# Altium schematic symbol library Scheet.SchLib: 52 symbols
Pins are listed as number, name and electrical type; pins without a type are passive.

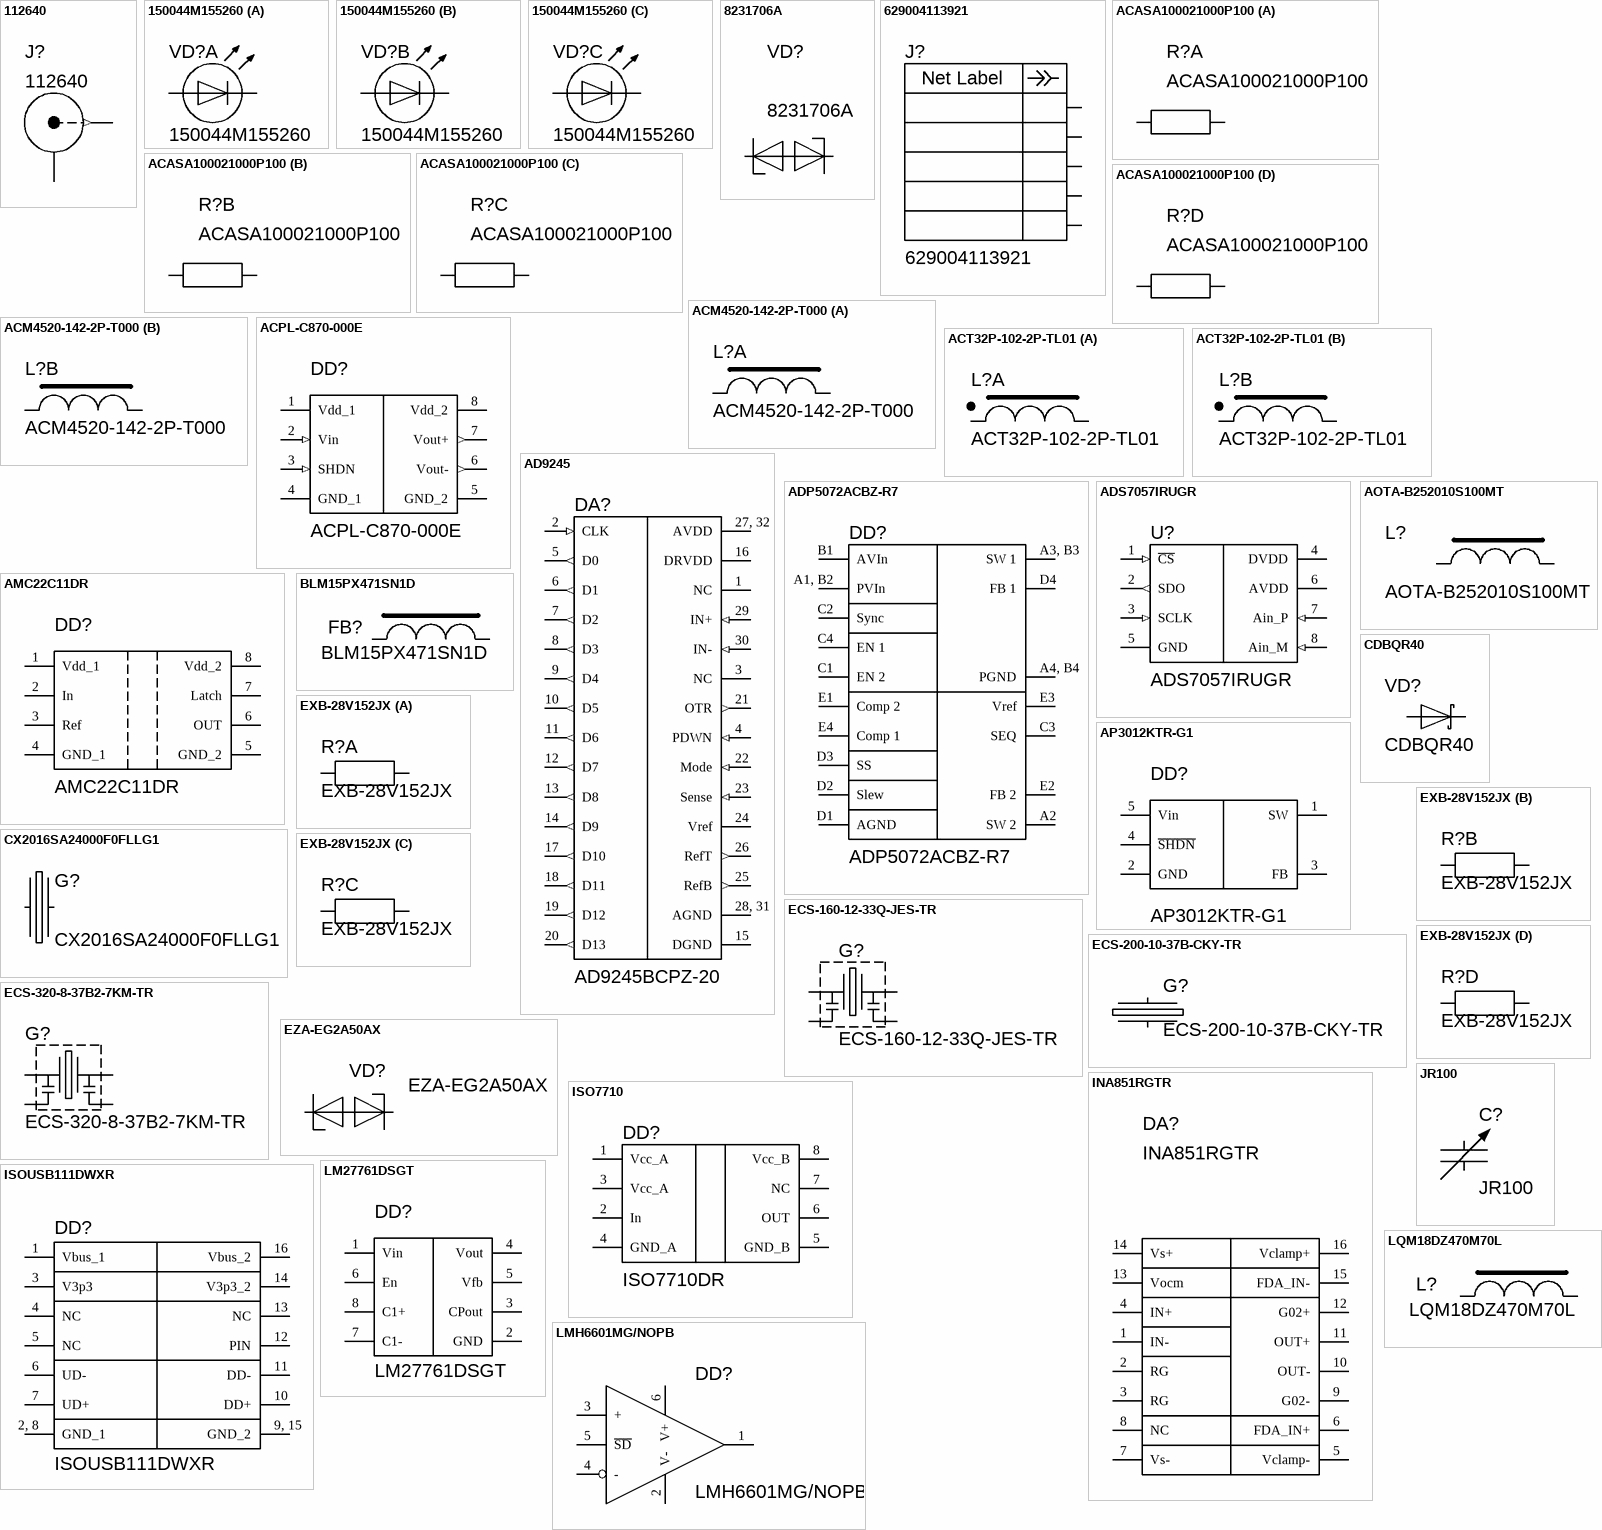
[diagram p0: symbols 112640 to LQM18DZ470M70L]

## 112640
designator J?
RF Connectors / Coaxial Connectors BNC PCB END LAUNCH 50 OHM RND BODY; Manufacturer: Amphenol; Value: 50 Ohms; ComponentLink1Description: Datasheet; ComponentLink1URL: https://eu.mouser.com/datasheet/2/18/1/amph_s_a0003617014_1-2261107.pdf; ComponentLink2Description: Link; ComponentLink2URL: https://eu.mouser.com/ProductDetail/Amphenol-RF/112640?qs=g6wJ%252BjiQWOckvE%2FP9L4wAw%3D%3D; P/N: 112640; Case: BNC; Component Type: Jack (Socket)
footprint 112640
pins: 1 In (out), 2 Shield (power)

## 150044M155260
designator VD?
Standard LEDs - SMD WL-SFCC SMT LED Full-color Chip; Manufacturer: Wurth Elektronik; Value: RGB LEDs; ComponentLink1Description: Datasheet; ComponentLink1URL: https://www.we-online.com/components/products/datasheet/150044M155260.pdf; ComponentLink2Description: Link; ComponentLink2URL: https://eu.mouser.com/ProductDetail/Wurth-Elektronik/150044M155260?qs=u16ybLDytRba39Og9E2ywA%3D%3D; P/N: 150044M155260; Case: 0404; Component Type: Standard LEDs - SMD
footprint 0404(RGB LED)
part A pins: 1 Anode, 2 Cathode
part B pins: 1 Anode, 3 Cathode
part C pins: 1 Anode, 4 Cathode

## 8231706A
designator VD?
ESD Suppressors / TVS Diodes WE-VE femtoF 0402 6V 0.05pF 0.05uA; Manufacturer: Wurth Elektronik; Value: 6 VDC; ComponentLink1Description: Datasheet; ComponentLink1URL: https://www.we-online.com/components/products/datasheet/8231706A.pdf; ComponentLink2Description: Link; ComponentLink2URL: https://eu.mouser.com/ProductDetail/Wurth-Elektronik/8231706A?qs=wnTfsH77Xs6uU3vjj%252BDu6g%3D%3D; P/N: 8231706A; Case: 0402; Component Type: ESD Suppressors / TVS Diodes
footprint R0402
pins: 1, 2

## 629004113921
designator J?
USB Connectors WR-COM Type A SMT 4Pin W/Clip Male; Manufacturer: Wurth Elektronik; Value: USB A; ComponentLink1Description: Datasheet; ComponentLink1URL: https://www.we-online.com/components/products/datasheet/629004113921.pdf; ComponentLink2Description: Link; ComponentLink2URL: https://eu.mouser.com/ProductDetail/Wurth-Elektronik/629004113921?qs=35zkduByVmhHRkVkRjAlEQ%3D%3D; P/N: 629004113921; Case: USB A; Component Type: USB Type A Connectors
footprint 629004113921
pins: 0, 1, 2, 3, 4
text: Net Label

## ACASA100021000P100
designator R?
Resistor Networks & Arrays 100/100ohms .5% 50ppm 0612 Convex; Manufacturer: Vishay; Value: 100R; ComponentLink1Description: Datasheet; ComponentLink1URL: https://www.vishay.com/docs/28754/acasprof.pdf; ComponentLink2Description: Link; ComponentLink2URL: https://eu.mouser.com/ProductDetail/Vishay-Beyschlag/ACASA100021000P100?qs=nuXzIS8loXGt0LS72QQVIg%3D%3D; P/N: ACASA100021000P100; Case: 0612 (1632 metric); Component Type: Resistor Networks & Arrays
footprint ACAS 0612
part A pins: 1, 2
part B pins: 3, 4
part C pins: 5, 6
part D pins: 7, 8

## ACM4520-142-2P-T000
designator L?
Common Mode Chokes / Filters 50VDC 80mOhm 1.5A 180mm; Manufacturer: TDK; Value: 2.5 uH, 1400 Ohms, 1.5 A; ComponentLink1Description: Datasheet; ComponentLink1URL: https://product.tdk.com/system/files/dam/doc/product/emc/emc/cmf_cmc/catalog/cmf_commercial_power_acm4520_en.pdf; ComponentLink2Description: Link; ComponentLink2URL: https://eu.mouser.com/ProductDetail/TDK/ACM4520-142-2P-T000?qs=LqEMasVbnSh%2FQElecwEc%252Bg%3D%3D; P/N: ACM4520-142-2P-T000; Case: 1808; Component Type: Common Mode Chokes / Filters
footprint 1808 (4520 metric)
part A pins: 1, 4
part B pins: 2, 3

## ACPL-C870-000E
designator DD?
Optically Isolated Amplifiers Precision Iso-Amp; Manufacturer: Broadcom Limited; Value: 100 kHz; ComponentLink1Description: Datasheet; ComponentLink1URL: https://eu.mouser.com/datasheet/2/678/avgo_s_a0002428009_1-2290947.pdf; ComponentLink2Description: Link; ComponentLink2URL: https://eu.mouser.com/ProductDetail/Broadcom-Avago/ACPL-C870-000E?qs=mhB89zxvawkjQTU%252BZdJZGA%3D%3D; P/N: ACPL-C870-000E; Case: SSO-8; Component Type: Optically Isolated Amplifiers
footprint SS0-8
pins: 1 Vdd_1 (power), 2 Vin (in), 3 SHDN (in), 4 GND_1 (power), 5 GND_2 (power), 6 Vout- (out), 7 Vout+ (out), 8 Vdd_2 (power)

## ACT32P-102-2P-TL01
designator L?
Common Mode Chokes / Filters 80VDC 0.15Ohm 0.80A AEC-Q200; Manufacturer: TDK; Value: 150 mOhms, 800 mA; ComponentLink1Description: Datasheet; ComponentLink1URL: https://product.tdk.com/system/files/dam/doc/product/emc/emc/cmf_cmc/catalog/cmf_automotive_power_act32p_en.pdf; ComponentLink2Description: Link; ComponentLink2URL: https://eu.mouser.com/ProductDetail/TDK/ACT32P-102-2P-TL01?qs=DRkmTr78QASmPpbb1ZzWJg%3D%3D; P/N: ACT32P-102-2P-TL01; Case: 1210; Component Type: Common Mode Chokes / Filters
footprint 1210 inductance
part A pins: 1, 4
part B pins: 2, 3

## AD9245
designator DA?, comment AD9245BCPZ-20
Analog to Digital Converters - ADC 14-Bit, 20 MSPS/40 MSPS/65 MSPS/80 MSPS 3 V A/D Converter; Manufacturer: Analog Devices Inc.; Value: 14 bit,  20 MS/s; ComponentLink1Description: Datasheet; ComponentLink1URL: https://eu.mouser.com/datasheet/2/609/AD9245-3134626.pdf; ComponentLink2Description: Link; ComponentLink2URL: https://eu.mouser.com/ProductDetail/Analog-Devices/AD9245BCPZ-20?qs=%2FtpEQrCGXCyn%2FB%2F5xLQAJw%3D%3D; P/N: AD9245BCPZ-20; Case: LFCSP-32; Component Type: Analog to Digital Converters - ADC
footprint LFCSP-32_AD9245
pins: 1 NC, 2 CLK (in), 3 NC, 4 PDWN (in), 5 D0 (out), 6 D1 (out), 7 D2 (out), 8 D3 (out), 9 D4 (out), 10 D5 (out), 11 D6 (out), 12 D7 (out), 13 D8 (out), 14 D9 (out), 15 DGND (power), 16 DRVDD (power), 17 D10 (out), 18 D11 (out), 19 D12 (out), 20 D13 (out), 21 OTR (out), 22 Mode (in), 23 Sense (in), 24 Vref (power), 25 RefB (out), 26 RefT (out), 27, 32 AVDD (power), 28, 31 AGND (power), 29 IN+ (in), 30 IN- (in)

## ADP5072ACBZ-R7
designator DD?
Switching Voltage Regulators 1 A/0.6 A DC-to-DC Switching Regulator with Independent Positive and Negative Outputs; Manufacturer: Analog Devices Inc.; Value: - 30 V to 35 V; ComponentLink1Description: Datasheet; ComponentLink1URL: https://eu.mouser.com/datasheet/2/609/adp5072-3121366.pdf; ComponentLink2Description: Link; ComponentLink2URL: https://eu.mouser.com/ProductDetail/Analog-Devices/ADP5072ACBZ-R7?qs=w%2Fv1CP2dgqoekXcyqSGVnQ%3D%3D; P/N: ADP5072ACBZ-R7; Case: WLCSP-20; Component Type: Switching Voltage Regulators
footprint WLCSP-20
pins: A1, B2 PVIn, A2 SW 2, A3, B3 SW 1, A4, B4 PGND, B1 AVIn, C1 EN 2, C2 Sync, C3 SEQ, C4 EN 1, D1 AGND, D2 Slew, D3 SS, D4 FB 1, E1 Comp 2, E2 FB 2, E3 Vref, E4 Comp 1

## ADS7057IRUGR
designator U?
Analog to Digital Converters - ADC 14-Bit, 2.5MSPS, Differential Input, Small-Size Low-Power SAR ADC 8-X2QFN -40 to 125; Manufacturer: Texas Instruments; ComponentLink1Description: Datasheet; ComponentLink1URL: https://www.ti.com/lit/ds/symlink/ads7057.pdf?ts=1705399240186&ref_url=https%253A%252F%252Fwww.ti.com%252Fproduct%252FADS7057%253Futm_source%253Dgoogle%2526utm_medium%253Dcpc%2526utm_campaign%253Dasc-null-null-gpn_en-cpc-pf-google-tw%2526utm_content%253Dads7057%2526ds_k%253D%2526dcm%253Dyes%2526gclid%253DCKDkyder4YMDFU2TxQIdCZ0DrA; ComponentLink2Description: Link; ComponentLink2URL: https://eu.mouser.com/ProductDetail/Texas-Instruments/ADS7057IRUGR?qs=W0yvOO0ixfHFG1eYl2OdxQ%3D%3D; Value: 14-Bit, 2.5MSPS; P/N: ADS7057IRUGR; Case: X2QFN-8; Component Type: Analog to Digital Converters - ADC
footprint PCBComponent_1 - duplicate
pins: 1 ~{CS} (in), 2 SDO (out), 3 SCLK (in), 4 DVDD (power), 5 GND (power), 6 AVDD (power), 7 Ain_P (in), 8 Ain_M (in)

## AMC22C11DR
designator DD?
Analog Comparators Fast-response basic isolated comparator with adjustable threshold and latch function 8-SOIC -40 to 125; Manufacturer: Texas Instruments; Value: 5.5 V; ComponentLink1Description: Datasheet; ComponentLink1URL: https://www.ti.com/lit/ds/symlink/amc22c11.pdf?ts=1709155590134&ref_url=https%253A%252F%252Feu.mouser.com%252F; ComponentLink2Description: Link; ComponentLink2URL: https://eu.mouser.com/ProductDetail/Texas-Instruments/AMC22C11DR?qs=T%252BzbugeAwjjHVh2SpNDp3A%3D%3D; P/N: AMC22C11DR; Case: SOIC-8; Component Type: Isolated Comparator
footprint SOIC-8
pins: 1 Vdd_1, 2 In, 3 Ref, 4 GND_1, 5 GND_2, 6 OUT, 7 Latch, 8 Vdd_2

## AOTA-B252010S100MT
designator L?
Power Inductors - SMD IND 10uH 1.2A 420mOhms; Manufacturer: ABRACON; ComponentLink1Description: Datasheet; ComponentLink1URL: https://eu.mouser.com/datasheet/2/3/AOTA_B252010S-3224149.pdf; ComponentLink2Description: Link; ComponentLink2URL: https://eu.mouser.com/ProductDetail/ABRACON/AOTA-B252010S100MT?qs=1Kr7Jg1SGW80mVrWNV0NfQ%3D%3D; P/N: AOTA-B252010S100MT; Value: 10 uH; Case: 0907 (2520 metric); Component Type: Power Inductors - SMD
footprint 0907 (2520)
pins: 1, 2

## AP3012KTR-G1
designator DD?
Switching Voltage Regulators 1.5MHz DC/DC 2.6V to 16V; Manufacturer: Diodes Incorporated; ComponentLink1Description: Datasheet; ComponentLink1URL: https://www.diodes.com/assets/Datasheets/AP3012.pdf; ComponentLink2Description: Link; ComponentLink2URL: https://eu.mouser.com/ProductDetail/Diodes-Incorporated/AP3012KTR-G1?qs=x6A8l6qLYDDQ%252B3KTjfzHFg%3D%3D; P/N: AP3012KTR-G1; Value: 16 V; Case: SOT-23-5; Component Type: Switching Voltage Regulators
footprint SOT-23-5
pins: 1 SW, 2 GND, 3 FB, 4 ~{SHDN}, 5 Vin

## BLM15PX471SN1D
designator FB?
Ferrite Beads 470 OHM 25% Alternate Sizing Guide Below; Manufacturer: Murata; Value: 470 Ohms, 1A; ComponentLink1Description: Datasheet; ComponentLink1URL: https://eu.mouser.com/datasheet/2/281/ENFA0018-1915754.pdf; ComponentLink2Description: Link; ComponentLink2URL: https://eu.mouser.com/ProductDetail/Murata-Electronics/BLM15PX471SN1D?qs=eTNEoJdcnEJgxrnv%252BsVZMw%3D%3D; P/N: BLM15PX471SN1D; Case: 0402; Component Type: Ferrite Beads
footprint R0402
pins: 1, 2

## CDBQR40
designator VD?
Schottky Diodes & Rectifiers 200mA 40V DFN Sm. Sgnl. Schottky; Manufacturer: Comchip Technology; Value: 200mA, 40V; ComponentLink1Description: Datasheet; ComponentLink1URL: https://eu.mouser.com/datasheet/2/80/CDBQR40_HF_RevC811666-2488328.pdf; ComponentLink2Description: Link; ComponentLink2URL: https://eu.mouser.com/ProductDetail/Comchip-Technology/CDBQR40?qs=tw%252BuQ%2FB6PO2qnzfzuJamKw%3D%3D; P/N: CDBQR40; Case: 0402; Component Type: Schottky Diodes & Rectifiers
footprint 0402_VD
pins: 1 Out, 2 IN

## CX2016SA24000F0FLLG1
designator G?
Crystals 2.0mm x 1.6mm Crystal 24MHz 10pF +/-20ppm; Manufacturer: KYOCERA AVX; ComponentLink1Description: Datasheet; ComponentLink1URL: https://eu.mouser.com/datasheet/2/40/cx2016sa_e-2936404.pdf; ComponentLink2Description: Link; ComponentLink2URL: https://eu.mouser.com/ProductDetail/KYOCERA-AVX/CX2016SA24000F0FLLG1?qs=Imq1NPwxi762eftAlKVhMQ%3D%3D; P/N: CX2016SA24000F0FLLG1; Value: 24 MHz; Case: 0806 (2016 metric); Component Type: Crystals
footprint 0806 (2016 metric)
pins: 1, 3

## ECS-160-12-33Q-JES-TR
designator G?
Crystals 16MHz 12pF 20ppm -40C +125C AEC-Q200; Manufacturer: ECS; Case: 3.2 mm x 2.5 mm; Component Type: Crystals; Value: 16 MHz; ComponentLink1Description: Datasheet; ComponentLink1URL: https://www.mouser.de/datasheet/2/122/ECX_33Q-938166.pdf; ComponentLink2Description: Link; ComponentLink2URL: https://www.mouser.de/ProductDetail/ECS/ECS-160-12-33Q-JES-TR?qs=%2FnKYMpMO73PYvRaxa9KuKg%3D%3D; P/N: ECS-160-12-33Q-JES-TR
footprint Crystal_3.2_2.5_mm (for ECS-160-12-33Q-JES-TR)
pins: 1, 2, 3, 4

## ECS-200-10-37B-CKY-TR
designator G?
Crystals 20MHz ESR 70 10pF-30C +85C; Manufacturer: ECS; Value: 20 MHz,  10 PPM; ComponentLink1Description: Datasheet; ComponentLink1URL: https://eu.mouser.com/datasheet/2/122/ECX_1637B-1633271.pdf; ComponentLink2Description: Link; ComponentLink2URL: https://eu.mouser.com/ProductDetail/ECS/ECS-200-10-37B-CKY-TR?qs=l7cgNqFNU1iRTZcEfH9KUQ%3D%3D; P/N: ECS-200-10-37B-CKY-TR; Case: 2 mm x 1.6 mm; Component Type: Crystals
footprint 2 mm x 1.6 mm (ECS-200-10-37B-CKY-TR)
pins: 1, 3

## ECS-320-8-37B2-7KM-TR
designator G?
Crystals 32.000 MHz 8 pF +/-7 +/-10 -20 +70 C +/-2 ppm Max. ESR = 50; Manufacturer: ECS; Value: 32 MHz,  10 PPM; ComponentLink1Description: Datasheet; ComponentLink1URL: https://eu.mouser.com/datasheet/2/122/ECX_1637B2-2400564.pdf; ComponentLink2Description: Link; ComponentLink2URL: https://eu.mouser.com/ProductDetail/ECS/ECS-320-8-37B2-7KM-TR?qs=QNEnbhJQKvYRM5nE5d%2F8vg%3D%3D; P/N: ECS-320-8-37B2-7KM-TR; Case: 2 mm x 1.6 mm; Component Type: Crystals
footprint 2 mm x 1.6 mm (ECS-200-10-37B-CKY-TR)
pins: 1, 2, 3, 4

## EXB-28V152JX
designator R?
Resistor Networks & Arrays Resistor ArrayChip 0804 4 elements; Manufacturer: Panasonic; Value: 1.5 kOhms; ComponentLink1Description: Datasheet; ComponentLink1URL: https://eu.mouser.com/datasheet/2/315/AOC0000C14-1108062.pdf; ComponentLink2Description: Link; ComponentLink2URL: https://eu.mouser.com/ProductDetail/Panasonic/EXB-28V152JX?qs=WwqriLBepZsRGQkpxUQQDA%3D%3D; P/N: EXB-28V152JX; Case: 0402 (1005 metric); Component Type: Resistor Networks & Arrays
footprint 0402 (1005 metric) (EXB-28V152JX)
part A pins: 1, 8
part B pins: 2, 7
part C pins: 3, 6
part D pins: 4, 5

## EZA-EG2A50AX
designator VD?
TVS Diodes / ESD Suppressors Dataline Protection PP; Manufacturer: Panasonic; Value: 1 channel, Bidirectional, 100V; ComponentLink1Description: Datasheet; ComponentLink1URL: https://eu.mouser.com/datasheet/2/315/AWD0000C13-1131263.pdf; ComponentLink2Description: Link; ComponentLink2URL: https://eu.mouser.com/ProductDetail/Panasonic/EZA-EG2A50AX?qs=sGAEpiMZZMsItbzKdwyIez%252BvwGoF%252BBrnhQ8KlbijrwA%3D; P/N: EZA-EG2A50AX; Case: 0402; Component Type: TVS Diodes / ESD Suppressors
footprint R0402
pins: 1, 2

## INA851RGTR
designator DA?
Instrumentation Amplifiers Low-noise (3.2 nV/vHz) high-speed (22 MHz) fully-differential instrumentation amp with OVP (+/-40 V) 16-VQFN -40 to 125; Manufacturer: Texas Instruments; Value: 3.2 nV/vHz. +-40V; ComponentLink1Description: Datasheet; ComponentLink1URL: https://www.ti.com/lit/ds/symlink/ina851.pdf?ts=1707581186124&ref_url=https%253A%252F%252Feu.mouser.com%252F; ComponentLink2Description: Link; ComponentLink2URL: https://eu.mouser.com/ProductDetail/Texas-Instruments/INA851RGTR?qs=Y0Uzf4wQF3kbGQkgMC0HWQ%3D%3D; P/N: INA851RGTR; Case: VQFN-16; Component Type: Instrumentation Amplifiers
footprint VQFN_16_INA851
pins: 1 IN-, 2 RG, 3 RG, 4 IN+, 5 Vclamp-, 6 FDA_IN+, 7 Vs-, 8 NC, 9 G02-, 10 OUT-, 11 OUT+, 12 G02+, 13 Vocm, 14 Vs+, 15 FDA_IN-, 16 Vclamp+

## ISO7710
designator DD?, comment ISO7710DR
Digital Isolators Robust EMC, single-channel, reinforced digital isolator 8-SOIC -55 to 125; Manufacturer: Texas Instruments; Value: 1 Channel, 100 Mb/s; ComponentLink1Description: Datasheet; ComponentLink1URL: https://www.ti.com/lit/ds/symlink/iso7710.pdf?ts=1707945183418&ref_url=https%253A%252F%252Feu.mouser.com%252F; ComponentLink2Description: Link; ComponentLink2URL: https://eu.mouser.com/ProductDetail/Texas-Instruments/ISO7710DR?qs=0C8XhJW8e4oR5nrR%2Fs7iLg%3D%3D; P/N: ISO7710DR; Case: SOIC-8; Component Type: Digital Isolators
footprint SOIC-8
pins: 1 Vcc_A, 2 In, 3 Vcc_A, 4 GND_A, 5 GND_B, 6 OUT, 7 NC, 8 Vcc_B

## ISOUSB111DWXR
designator DD?
USB Interface IC Low-emission isolated USB repeater supporting low and full speed 16-SSOP -40 to 125; Manufacturer: Texas Instruments; Value: USB 2.0; ComponentLink1Description: Datasheet; ComponentLink1URL: https://www.ti.com/lit/ds/symlink/isousb111.pdf?ts=1708034758891&ref_url=https%253A%252F%252Fwww.ti.com%252Fproduct%252FISOUSB111; ComponentLink2Description: Link; ComponentLink2URL: https://eu.mouser.com/ProductDetail/Texas-Instruments/ISOUSB111DWXR?qs=Y0Uzf4wQF3msEozH7EwD3g%3D%3D; P/N: ISOUSB111DWXR; Case: SSOP-16; Component Type: USB Interface IC
footprint SSOP-16
pins: 1 Vbus_1, 2, 8 GND_1, 3 V3p3, 4 NC, 5 NC, 6 UD-, 7 UD+, 9, 15 GND_2, 10 DD+, 11 DD-, 12 PIN, 13 NC, 14 V3p3_2, 16 Vbus_2

## JR100
designator C?
Trimmer/Variable Capacitors 2.0 - 10pF 100volts; Manufacturer: Knowles; Value: 2 pF to 10 pF; ComponentLink1Description: Datasheet; ComponentLink1URL: https://eu.mouser.com/datasheet/2/218/Knowles_Trimmers_Catalogue_web-1774092.pdf; ComponentLink2Description: Link; ComponentLink2URL: https://eu.mouser.com/ProductDetail/Knowles-Voltronics/JR100?qs=Xqu1B%2Fs4Uoag80ukOW5org%3D%3D; P/N: JR100; Case: JR; Component Type: Trimmer/Variable Capacitors
footprint Trimmer Capacitors
pins: 1, 2

## LM27761DSGT
designator DD?
Switching Voltage Regulators Low-Noise Regulated Switched Capacitor; Manufacturer: Texas Instruments; Value: - 5 V to - 1.5 V; ComponentLink1Description: Datasheet; ComponentLink1URL: https://www.ti.com/lit/ds/symlink/lm27761.pdf?ts=1709149591323&ref_url=https%253A%252F%252Feu.mouser.com%252F; ComponentLink2Description: Link; ComponentLink2URL: https://eu.mouser.com/ProductDetail/Texas-Instruments/LM27761DSGT?qs=jK8VN%252BJp1h5Sdnd3ViQCNQ%3D%3D; P/N: LM27761DSGT; Case: WSON-8; Component Type: Switching Voltage Regulators
footprint WSON-8
pins: 1 Vin, 2 GND, 3 CPout, 4 Vout, 5 Vfb, 6 En, 7 C1-, 8 C1+

## LMH6601MG/NOPB
designator DD?
Operational Amplifiers - Op Amps 250 MHz, 2.4V CMOS Operational Amplifier with Shutdown 6-SC70 -40 to 85; Manufacturer: Texas Instruments; Value: 150 MHz; ComponentLink1Description: Datasheet; ComponentLink1URL: https://www.ti.com/lit/ds/symlink/lmh6601-q1.pdf?ts=1709466846121&ref_url=https%253A%252F%252Feu.mouser.com%252F; ComponentLink2Description: Link; ComponentLink2URL: https://eu.mouser.com/ProductDetail/Texas-Instruments/LMH6601MG-NOPB?qs=7lkVKPoqpbau71mc2ih0sg%3D%3D; P/N: LMH6601MG/NOPB; Case: SC-70-6; Component Type: Operational Amplifiers - Op Amps
footprint SC-70-6 (DCK(R-PDSO-G6))
pins: 1 Out, 2 V-, 3 +, 4 -, 5 ~{SD}, 6 V+

## LQM18DZ470M70L
designator L?
Power Inductors - SMD 0603 47uH 20% 180mA 3.32ohm AEC-Q200; Manufacturer: Murata; ComponentLink1Description: Datasheet; ComponentLink1URL: https://eu.mouser.com/datasheet/2/281/1/JELF243B_9128-3158890.pdf; ComponentLink2Description: Link; ComponentLink2URL: https://eu.mouser.com/ProductDetail/Murata-Electronics/LQM18DZ470M70L?qs=aP1CjGhiNiGa4GC35xm0xg%3D%3D; P/N: LQM18DZ470M70L; Value: 180 mA; Case: 0603; Component Type: Power Inductors - SMD
footprint L0603
pins: 1, 2

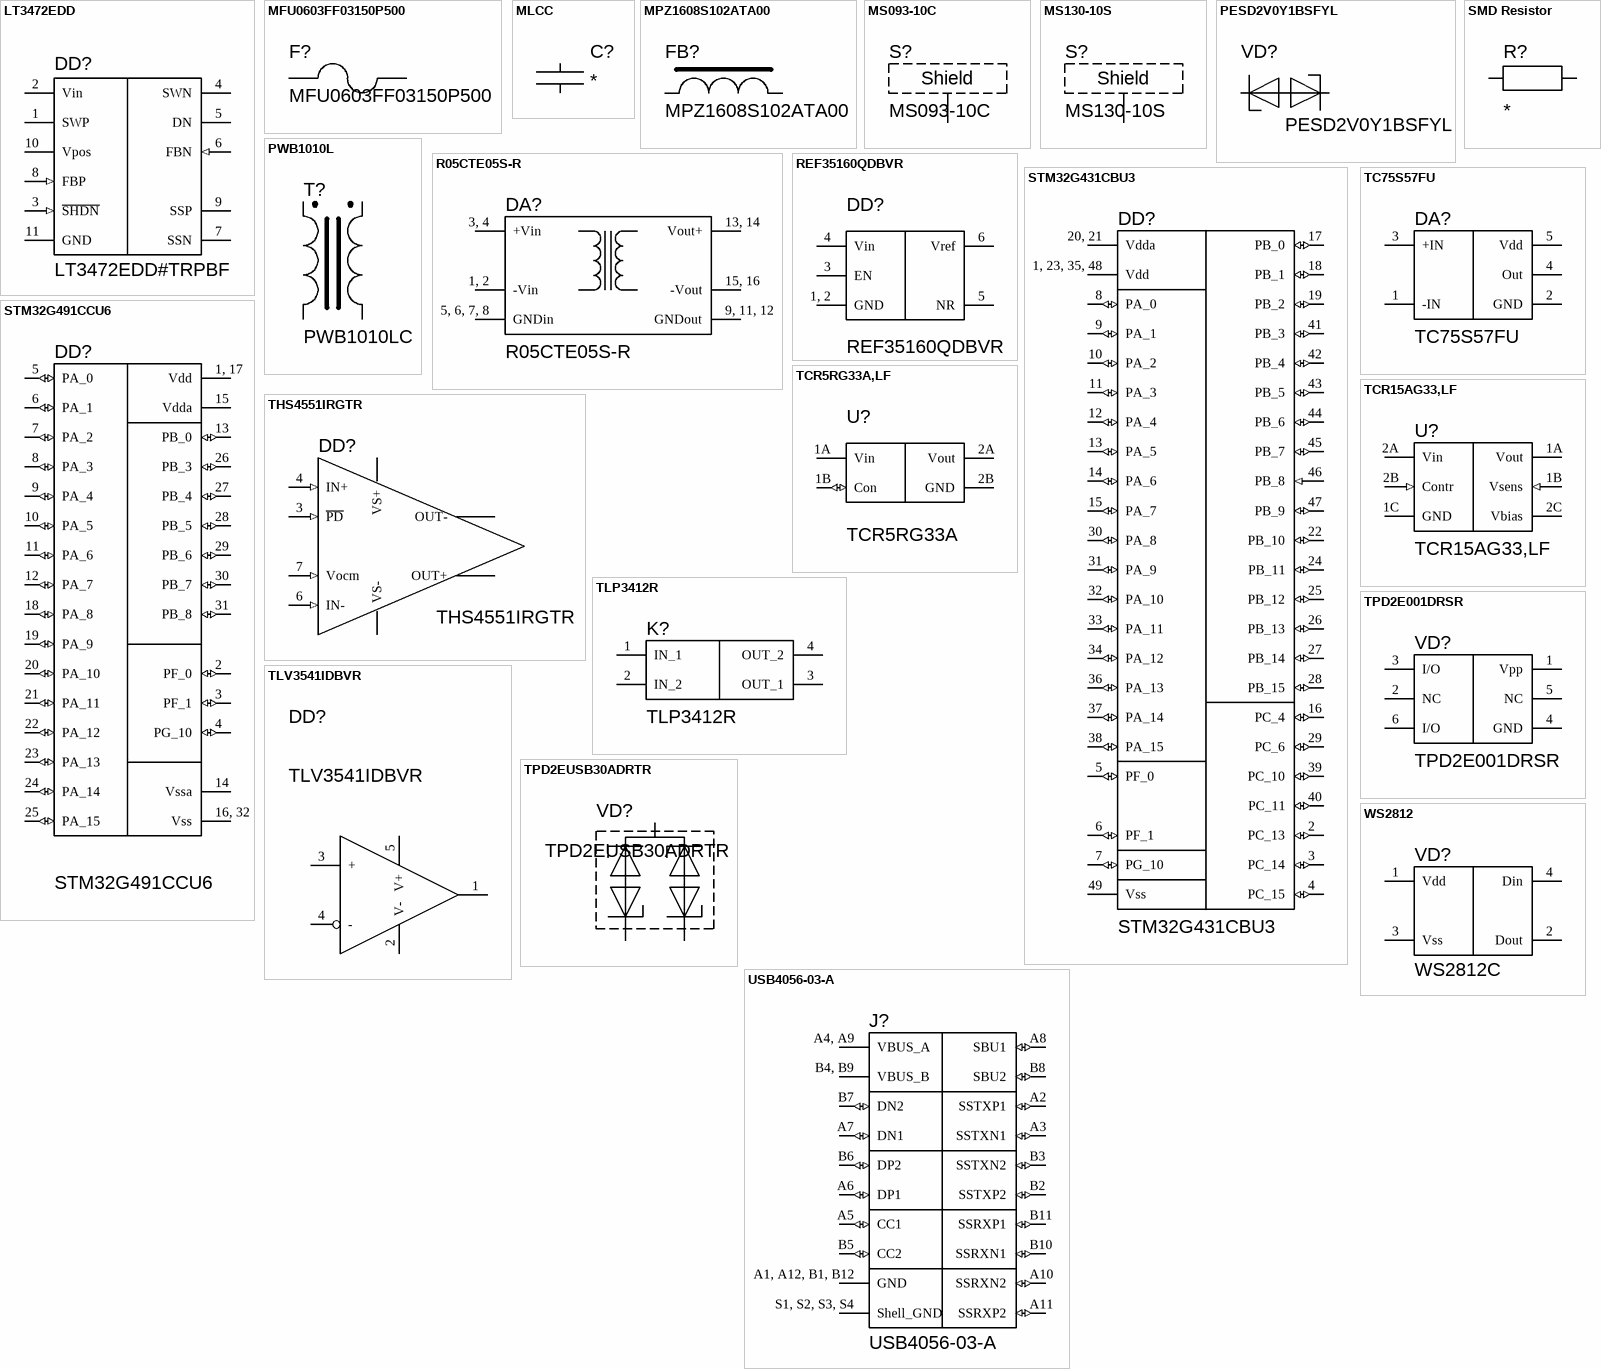
[diagram p1: symbols LT3472EDD to WS2812]

## LT3472EDD
designator DD?, comment LT3472EDD#TRPBF
Switching Voltage Regulators Boost & Inv DC/DC Conv for CCD Bias; Manufacturer: Analog Devices Inc.; Value: 34V, 0.2A; ComponentLink1Description: Datasheet; ComponentLink1URL: https://eu.mouser.com/datasheet/2/609/3472f-3123771.pdf; ComponentLink2Description: Link; ComponentLink2URL: https://eu.mouser.com/ProductDetail/Analog-Devices/LT3472EDDTRPBF?qs=hVkxg5c3xu%252ByMC99fvAIqQ%3D%3D; P/N: LT3472EDD#TRPBF; Case: DFN-10; Component Type: Switching Voltage Regulators
footprint DFN-10
pins: 1 SWP (power), 2 Vin (power), 3 ~{SHDN} (in), 4 SWN (power), 5 DN (power), 6 FBN (in), 7 SSN (power), 8 FBP (in), 9 SSP (power), 10 Vpos (power), 11 GND (power)

## MFU0603FF03150P500
designator F?
Surface Mount Fuses 32V 3.15A Fast Act; Manufacturer: Vishay; Value: 3.15 A; P/N: MFU0603FF03150P500; Case: 0603; Component Type: Surface Mount Fuses; ComponentLink1Description: Datasheet; ComponentLink1URL: https://www.vishay.com/docs/28747/mfuserie.pdf; ComponentLink2Description: Link; ComponentLink2URL: https://eu.mouser.com/ProductDetail/Vishay-Beyschlag/MFU0603FF03150P500?qs=sGAEpiMZZMsIz3CjQ1xegdfpEu45NLwazbH8oP2SIn8%3D
footprint F0603
pins: 1 IN, 2 IN

## MLCC
designator C?
Cercap smd; P/N: *; Component Type: *; Manufacturer: *; Case: *; ComponentLink1Description: Link; ComponentLink1URL: *; ComponentLink2Description: Datasheet; ComponentLink2URL: *; Value: *
footprint C0603 (*)
footprint C0402 (Chip Capacitor, Body 1.0x0.5mm, IPC High Density)
pins: 1, 2

## MPZ1608S102ATA00
designator FB?
Ferrite Beads 1000ohm 0.8A 300mOhm 0603 Ferrite Chip; Manufacturer: TDK; Value: 1k; ComponentLink1Description: Datasheet; ComponentLink1URL: https://product.tdk.com/system/files/dam/doc/product/emc/emc/beads/catalog/beads_commercial_power_mpz1608_en.pdf; ComponentLink2Description: Link; ComponentLink2URL: https://eu.mouser.com/ProductDetail/TDK/MPZ1608S102ATA00?qs=8Kz9Wu9QwqXjw56MUD5REw%3D%3D; P/N: MPZ1608S102ATA00; Case: 0603; Component Type: Ferrite Beads
footprint L0603
pins: 1, 2

## MS093-10C
designator S?
EMI Gaskets, Sheets, Absorbers & Shielding 9.7 x 9.7 x 3mm Two-piece Drawn-Seamless RF Shield/EMI Shield COVER (CRS); Manufacturer: Masach Tech; ComponentLink1Description: Datasheet; ComponentLink1URL: https://api.masach.com/media/catalog/product/file/MS093-10.pdf; ComponentLink2Description: Link; ComponentLink2URL: https://eu.mouser.com/ProductDetail/Masach/MS093-10C?qs=CT2LuZh%2F7EP1flleX1ZknA%3D%3D; Value: *; P/N: MS093-10C; Case: 9.7 x 9.7 x 3; Component Type: Shields
footprint MS093-10C
pins: 1
text: Shield

## MS130-10S
designator S?
EMI Gaskets, Sheets, Absorbers & Shielding 13 x 13 x 5mm One-piece Drawn-Seamless RF Shield/EMI Shield (CRS); Manufacturer: Masach Tech; ComponentLink1Description: Datasheet; ComponentLink1URL: https://api.masach.com/media/catalog/product/file/MS128-10.pdf; ComponentLink2Description: Link; ComponentLink2URL: https://eu.mouser.com/ProductDetail/Masach/MS130-10S?qs=pUKx8fyJudDNyG0ZPUxt%2FA%3D%3D; Value: 13 x 13 x 5mm; P/N: MS130-10S; Case: 13 x 13 x 5mm; Component Type: Shields
footprint 13_13_5mm
pins: 1
text: Shield

## PESD2V0Y1BSFYL
designator VD?
ESD Suppressors / TVS Diodes PESD2V0Y1BSF/SOD962/SOD962; Manufacturer: Nexperia; Value: 2 V; ComponentLink1Description: Datasheet; ComponentLink1URL: https://eu.mouser.com/datasheet/2/916/PESD2V0Y1BSF-1319538.pdf; ComponentLink2Description: Link; ComponentLink2URL: https://eu.mouser.com/ProductDetail/Nexperia/PESD2V0Y1BSFYL?qs=F5EMLAvA7IB7r2%252BuwsNJ2A%3D%3D; P/N: PESD2V0Y1BSFYL; Case: DSN-0603-2; Component Type: ESD Suppressors / TVS Diodes
footprint DSN-0603-2
pins: 1, 2

## PWB1010L
designator T?, comment PWB1010LC
Audio Transformers / Signal Transformers PWB Wideband RF 1:1 0.0035-125 MHz; Manufacturer: Coilcraft; Value: 3.5 kHz to 125 MHz; ComponentLink1Description: Datasheet; ComponentLink1URL: https://eu.mouser.com/datasheet/2/597/pwb-463529.pdf; ComponentLink2Description: Link; ComponentLink2URL: https://eu.mouser.com/ProductDetail/Coilcraft/PWB1010LC?qs=ZYnrCdKdyeesEVMGru6ImA%3D%3D; P/N: PWB1010LC
footprint PWB1010
pins: 1, 3, 4, 6

## R05CTE05S-R
designator DA?
Isolated DC/DC Converters - SMD 1W 4.5-5.5Vin 5.0Vout 200mA Reel; Manufacturer: RECOM; Value: 1 W, 5V; ComponentLink1Description: Datasheet; ComponentLink1URL: https://eu.mouser.com/datasheet/2/468/RxxCTExxS-3179767.pdf; ComponentLink2Description: Link; ComponentLink2URL: https://eu.mouser.com/ProductDetail/RECOM-Power/R05CTE05S-R?qs=7D1LtPJG0i0SUCKLd%252BnSSQ%3D%3D; P/N: R05CTE05S-R; Case: SOIC-16; Component Type: Isolated DC/DC Converters - SMD
footprint SOIC-16
pins: 1, 2 -Vin, 3, 4 +Vin, 5, 6, 7, 8 GNDin, 9, 11, 12 GNDout, 13, 14 Vout+, 15, 16 -Vout

## REF35160QDBVR
designator DD?
Voltage References 650-nA quiescent current, 12-ppm/C drift, ultra-low-power precision voltage reference; Manufacturer: Texas Instruments; Value: 1.6 V 0.05 %  12 PPM / C; ComponentLink1Description: Datasheet; ComponentLink1URL: https://www.ti.com/lit/ds/symlink/ref35.pdf?ts=1709124227613&ref_url=https%253A%252F%252Fwww.mouser.de%252F; ComponentLink2Description: Link; ComponentLink2URL: https://eu.mouser.com/ProductDetail/Texas-Instruments/REF35160QDBVR?qs=rQFj71Wb1eVJh8regkgQhg%3D%3D; P/N: REF35160QDBVR; Case: SOT-23-6; Component Type: Voltage References
footprint SOT-23-6
pins: 1, 2 GND, 3 EN, 4 Vin, 5 NR, 6 Vref

## SMD Resistor
designator R?
Res SMD; ComponentLink1Description: Datasheet; ComponentLink1URL: *; ComponentLink2Description: Link; ComponentLink2URL: *; Value: *; P/N: *; Manufacturer: *; Case: *; Component Type: *
footprint R0402 (×èï ðåçèñòîð; Ðàçìåð 1 x 0.5 ìì (Ä x Ø))
footprint R0603 (*)
footprint R0805
pins: 1, 2

## STM32G431CBU3
designator DD?
ARM Microcontrollers - MCU Mainstream Arm Cortex-M4 MCU 170 MHz 128 Kbytes of Flash Math Accel, Medium Anal; Manufacturer: STMicroelectronics; Value: 170 MHz; ComponentLink1Description: Datasheet; ComponentLink1URL: https://eu.mouser.com/datasheet/2/389/stm32g431c6-1600866.pdf; ComponentLink2Description: Link; ComponentLink2URL: https://eu.mouser.com/ProductDetail/STMicroelectronics/STM32G431CBU3?qs=PzGy0jfpSMuhNWEWgwfZ0w%3D%3D; P/N: STM32G431CBU3; Case: UFQFPN-48; Component Type: ARM Microcontrollers - MCU
footprint UFQFPN-48
pins: 1, 23, 35, 48 Vdd (power), 2 PC_13 (io), 3 PC_14 (io), 4 PC_15 (io), 5 PF_0 (io), 6 PF_1 (io), 7 PG_10 (io), 8 PA_0 (io), 9 PA_1 (io), 10 PA_2 (io), 11 PA_3 (io), 12 PA_4 (io), 13 PA_5 (io), 14 PA_6 (io), 15 PA_7 (io), 16 PC_4 (io), 17 PB_0 (io), 18 PB_1 (io), 19 PB_2 (io), 20, 21 Vdda (power), 22 PB_10 (io), 24 PB_11 (io), 25 PB_12 (io), 26 PB_13 (io), 27 PB_14 (io), 28 PB_15 (io), 29 PC_6 (io), 30 PA_8 (io), 31 PA_9 (io), 32 PA_10 (io), 33 PA_11 (io), 34 PA_12 (io), 36 PA_13 (io), 37 PA_14 (io), 38 PA_15 (io), 39 PC_10 (io), 40 PC_11 (io), 41 PB_3 (io), 42 PB_4 (io), 43 PB_5 (io), 44 PB_6 (io), 45 PB_7 (io), 46 PB_8 (in), 47 PB_9 (io), 49 Vss (power)

## STM32G491CCU6
designator DD?
ARM Microcontrollers - MCU Mainstream Arm Cortex-M4+ MCU 170MHz with 256Kbytes of Flash memory; Manufacturer: STMicroelectronics; Value: 170 MHz, 256 kB,  4 x 12 bit; ComponentLink1Description: Datasheet; ComponentLink1URL: https://eu.mouser.com/datasheet/2/389/stm32g491cc-2079910.pdf; ComponentLink2Description: Link; ComponentLink2URL: https://eu.mouser.com/ProductDetail/STMicroelectronics/STM32G491CCU6?qs=eP2BKZSCXI7DW1LAe4ydBg%3D%3D; P/N: STM32G491CCU6; Case: UFQFPN-48; Component Type: ARM Microcontrollers - MCU
footprint UFQFPN-32
pins: 1, 17 Vdd (power), 2 PF_0 (io), 3 PF_1 (io), 4 PG_10 (io), 5 PA_0 (io), 6 PA_1 (io), 7 PA_2 (io), 8 PA_3 (io), 9 PA_4 (io), 10 PA_5 (io), 11 PA_6 (io), 12 PA_7 (io), 13 PB_0 (io), 14 Vssa (power), 15 Vdda (power), 16, 32 Vss (power), 18 PA_8 (io), 19 PA_9 (io), 20 PA_10 (io), 21 PA_11 (io), 22 PA_12 (io), 23 PA_13 (io), 24 PA_14 (io), 25 PA_15 (io), 26 PB_3 (io), 27 PB_4 (io), 28 PB_5 (io), 29 PB_6 (io), 30 PB_7 (io), 31 PB_8 (io)

## TC75S57FU
designator DA?
Analog Comparators CMOS type Op Amp USV 1.8V to 7V; Manufacturer: Toshiba; Value: 11 ns, Push-Pull,  7 V; ComponentLink1Description: Datasheet; ComponentLink1URL: https://eu.mouser.com/datasheet/2/408/TC75S57F_datasheet_en_20190911-1916376.pdf; ComponentLink2Description: Link; ComponentLink2URL: https://eu.mouser.com/ProductDetail/Toshiba/TC75S57FUTE85LF?qs=iCzJi%2FIZBF5KA%2F75jYRrtQ%3D%3D; P/N: TC75S57FU; Case: USV-5; Component Type: Analog Comparators
footprint SSOP5-P095C
pins: 1 -IN, 2 GND, 3 +IN, 4 Out, 5 Vdd

## TCR5RG33A,LF
designator U?, comment TCR5RG33A
LDO Voltage Regulators LDO Reg, Iout: 500mA Vout: 3.3V Auto-Disch Low noise ultra high PSRR; Manufacturer: Toshiba; Value: 3V3; ComponentLink1Description: Datasheet; ComponentLink1URL: https://eu.mouser.com/datasheet/2/408/TCR5RG33A_datasheet_en_20230608-2509827.pdf; ComponentLink2Description: Link; ComponentLink2URL: https://eu.mouser.com/ProductDetail/Toshiba/TCR5RG33ALF?qs=eP2BKZSCXI5vOuyLbJVhkQ%3D%3D; P/N: TCR5RG33A; Case: WCSP4F-4; Component Type: LDO Voltage Regulators
footprint WLCSP4
pins: 1A Vin (power), 1B Con (io), 2A Vout (power), 2B GND (power)

## TCR15AG33,LF
designator U?
LDO Voltage Regulators LDO Linear Voltage Regulator 1.5A 3.3V; Manufacturer: Toshiba; Value: 3V3, 1.5A; ComponentLink1Description: Datasheet; ComponentLink1URL: https://eu.mouser.com/datasheet/2/408/TCR15AG33_datasheet_en_20230824-1916466.pdf; ComponentLink2Description: Link; ComponentLink2URL: https://eu.mouser.com/ProductDetail/Toshiba/TCR15AG33LF?qs=W0yvOO0ixfEdwQi51FhISQ%3D%3D; P/N: TCR15AG33,LF; Case: WCSP-6F-6; Component Type: LDO Voltage Regulators
footprint WCSP-6F-6
pins: 1A Vout (power), 1B Vsens (in), 1C GND (power), 2A Vin (power), 2B Contr (in), 2C Vbias (power)

## THS4551IRGTR
designator DD?
Differential Amplifiers Low Noise, Precision, 150MHz, Fully Differential Amplifier 16-VQFN -40 to 125; Manufacturer: Texas Instruments; Value: 135 MHz, 110 dB; ComponentLink1Description: Datasheet; ComponentLink1URL: https://www.ti.com/lit/ds/symlink/ths4551.pdf?ts=1706309444133&ref_url=https%253A%252F%252Fwww.google.com%252F; ComponentLink2Description: Link; ComponentLink2URL: https://eu.mouser.com/ProductDetail/Texas-Instruments/THS4551IRGTR?qs=HjC056NR38FIt5Tv8S%252BGPw%3D%3D; P/N: THS4551IRGTR; Case: VQFN-16; Component Type: Differential Amplifiers
footprint QFN-10
pins: 1 OUT-, 3 ~{PD} (in), 4 IN+ (in), 5 VS- (power), 6 IN- (in), 7 Vocm (in), 9 OUT+, 10 VS+ (power)

## TLP3412R
designator K?
Solid State Relays - PCB Mount; Manufacturer: Toshiba; Value: SON-4; ComponentLink1Description: Datasheet; ComponentLink1URL: https://eu.mouser.com/datasheet/2/408/TLP3412R_datasheet_en_20230525-1074906.pdf; ComponentLink2Description: Link; ComponentLink2URL: https://eu.mouser.com/ProductDetail/Toshiba/TLP3412RTPF?qs=hicmRmzGcNTvmIS5mxQOPQ%3D%3D; P/N: TLP3412R; Case: 0402; Component Type: TVS Diodes / ESD Suppressors
footprint SON-4
pins: 1 IN_1 (power), 2 IN_2 (power), 3 OUT_1 (power), 4 OUT_2 (power)

## TLV3541IDBVR
designator DD?
Operational Amplifiers - Op Amps Single, 200MHz, RRIO, CMOS Operational Amplifier 5-SOT-23 -40 to 125; Manufacturer: Texas Instruments; Value: 100 MHz; ComponentLink1Description: Datasheet; ComponentLink1URL: https://www.ti.com/lit/ds/symlink/tlv3544.pdf?ts=1709391555583&ref_url=https%253A%252F%252Fwww.mouser.de%252F; ComponentLink2Description: Link; ComponentLink2URL: https://eu.mouser.com/ProductDetail/Texas-Instruments/TLV3541IDBVR?qs=9lcNTSmDlCoQ%2FjlOWHAJGw%3D%3D; P/N: TLV3541IDBVR; Case: SOT-23-5; Component Type: Operational Amplifiers - Op Amps
footprint SOT-23-5
pins: 1 Out, 2 V-, 3 +, 4 -, 5 V+

## TPD2E001DRSR
designator VD?
ESD Suppressors / TVS Diodes Lo-Cap 2Ch +/-15 kV ESD-Prot Array; Manufacturer: Texas Instruments; Value: 2 Channel, 5.5V; ComponentLink1Description: Datasheet; ComponentLink1URL: https://www.ti.com/lit/ds/symlink/tpd2e001.pdf?ts=1706692162160; ComponentLink2Description: Link; ComponentLink2URL: https://eu.mouser.com/ProductDetail/Texas-Instruments/TPD2E001DRSR?qs=QyYHynRG50pgu5t2LiIdgQ%3D%3D; P/N: TPD2E001DRSR; Case: WSON-6; Component Type: ESD Suppressors
footprint WSON-6
pins: 1 Vpp (power), 2 NC, 3 I/O, 4 GND (power), 5 NC, 6 I/O

## TPD2EUSB30ADRTR
designator VD?
ESD Suppressors / TVS Diodes 2 Channel ESD/ Surge Solution; Manufacturer: Texas Instruments; Value: 2 Channel, 4.5 V; ComponentLink1Description: Datasheet; ComponentLink1URL: https://www.ti.com/lit/ds/symlink/tpd2eusb30.pdf?ts=1708175608995&ref_url=https%253A%252F%252Feu.mouser.com%252F; ComponentLink2Description: Link; ComponentLink2URL: https://eu.mouser.com/ProductDetail/Texas-Instruments/TPD2EUSB30ADRTR?qs=O1HRStiETCgOfMa6oTfOlg%3D%3D; P/N: TPD2EUSB30ADRTR; Case: SOT-9X3; Component Type: ESD Suppressors / TVS Diodes
footprint SOT-9X3
pins: 1, 2, 3

## USB4056-03-A
designator J?
USB Connectors USB C 3.2 Rec, Horz, Hybrid PCB Top Mount, T+R; Manufacturer: Global Connector Technology (GCT); Value: 3.2; ComponentLink1Description: Datasheet; ComponentLink1URL: https://eu.mouser.com/datasheet/2/837/GCT_06232023_USB4056-3223375.pdf; ComponentLink2Description: Link; ComponentLink2URL: https://eu.mouser.com/ProductDetail/GCT/USB4056-03-A?qs=QNEnbhJQKvbZ7hZzgFEugA%3D%3D; P/N: USB4056-03-A; Case: Type C 24 pin; Component Type: Type C 24 pin
footprint USB 3.2 Gen 2
pins: A1, A12, B1, B12 GND (power), A2 SSTXP1 (io), A3 SSTXN1 (io), A4, A9 VBUS_A (power), A5 CC1 (io), A6 DP1 (io), A7 DN1 (io), A8 SBU1 (io), A10 SSRXN2 (io), A11 SSRXP2 (io), B2 SSTXP2 (io), B3 SSTXN2 (io), B4, B9 VBUS_B (power), B5 CC2 (io), B6 DP2 (io), B7 DN2 (io), B8 SBU2 (io), B10 SSRXN1 (io), B11 SSRXP1 (io), S1, S2, S3, S4 Shell_GND (power)

## WS2812
designator VD?, comment WS2812C
RGB SMD5050 Light Emitting Diodes (LED) ROHS; Manufacturer: Worldsemi; ComponentLink1Description: Datasheet; ComponentLink1URL: https://datasheet.lcsc.com/lcsc/1810231210_Worldsemi-WS2812C_C114587.pdf; ComponentLink2Description: Link; ComponentLink2URL: https://www.lcsc.com/product-detail/Light-Emitting-Diodes-LED_Worldsemi-WS2812C_C114587.html; P/N: WS2812C; Value: RGB; Case: SMD5050; Component Type: RGB LED
footprint SMD5050
pins: 1 Vdd, 2 Dout, 3 Vss, 4 Din